# Altium schematic symbol library CSD25402Q3A.Schlib: 1 symbol
Pins are listed as number, name and electrical type; pins without a type are passive.

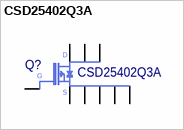
[diagram p0: symbol CSD25402Q3A]

## CSD25402Q3A
designator Q?
pins: 1 D, 2 D, 3 D, 4 G, 5 S, 6 S, 7 S, 8 S, 9 S